# EAGLE library part MAX9112 (library LVDS)
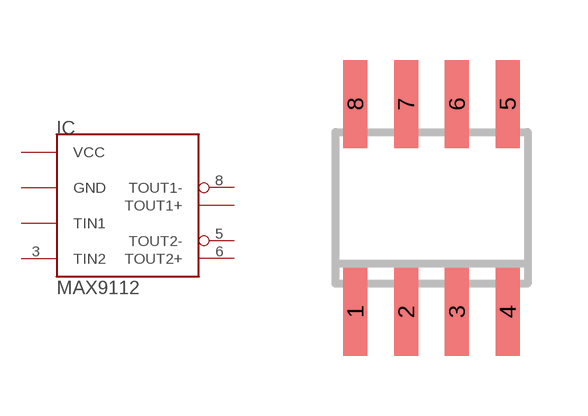
[diagram p2: symbol with the pads of SO8; footprint SO8]

Designator prefix IC

## MAX9112SO8  [SO8]
1  VCC
2  TIN1
3  TIN2
4  GND
5  TOUT2-
6  TOUT2+
7  TOUT1+
8  TOUT1-

## Footprint SO8 (pad centres in mm)
SMALL OUTLINE INTEGRATED CIRCUIT
smd 0.6 x 2.2: 1 -1.905,-2.6; 2 -0.635,-2.6; 3 0.635,-2.6; 4 1.905,-2.6; 5 1.905,2.6; 6 0.635,2.6; 7 -0.635,2.6; 8 -1.905,2.6